# EAGLE library part 693120015011 (library WR-CRD)
WR-CRD Compact Flash Card Connectors Characteristics Compatible with Type 1 and Type 2 CompactFlash Cards Available in Push-Pull/Header entry type Available in normal and reverse orientations Applications Embedded systems Industrial data logging Photo and video recording <https://www.we-online.com/components/media/o33060v209 Family_WR-CRD_Compact Flash Card Kartensockel_693120015011.jpg> Details see: www.we-online.com/en/components/products/WR-CRD_CARD_CONNECTORS_COMPACT_FLASH2 <www.we-online.com/catalog/WR-CRD_CARD_CONNECTORS_COMPACT_FLASH2/?utm_source=eagle_model&utm_medium=description_link&utm_campaign=eisos_eagle> Created by Ella Wu 2019-11-25 2019(C) Wurth Elektronik
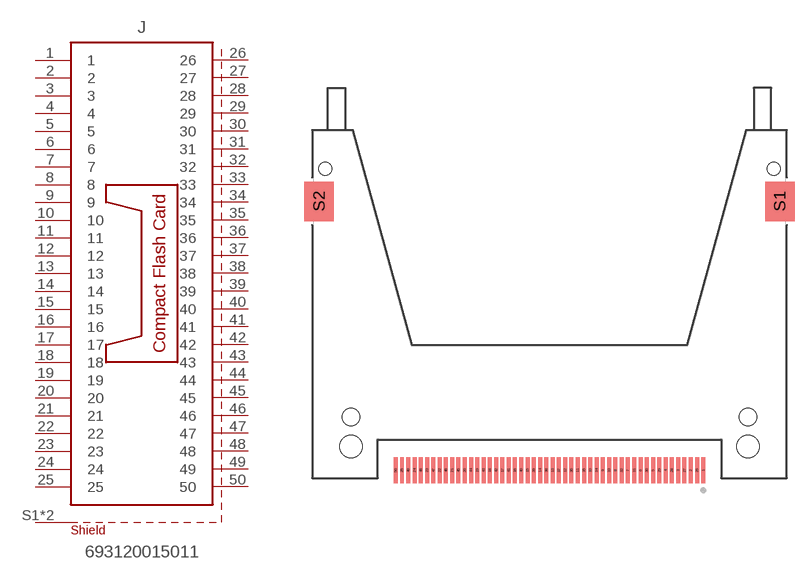
[diagram p16: symbol with the pads of 693120015011; footprint 693120015011]

Designator prefix J

## 693120015011 (DATASHEET-URL: https://www.we-online.com/redexpert/spec/693120015011?ae; DURABILITY: 5000 Mating cycles; GERDER: Socket; MOUNT: SMT; PART-NUMBER: 693120015011; PINS: 50pcs; SIZE: Header; TYPE: Header; VALUE: 693120015011)  [693120015011]
1  1  pas
2  2  pas
3  3  pas
4  4  pas
5  5  pas
6  6  pas
7  7  pas
8  8  pas
9  9  pas
10  10  pas
11  11  pas
12  12  pas
13  13  pas
14  14  pas
15  15  pas
16  16  pas
17  17  pas
18  18  pas
19  19  pas
20  20  pas
21  21  pas
22  22  pas
23  23  pas
24  24  pas
25  25  pas
26  26  pas
27  27  pas
28  28  pas
29  29  pas
30  30  pas
31  31  pas
32  32  pas
33  33  pas
34  34  pas
35  35  pas
36  36  pas
37  37  pas
38  38  pas
39  39  pas
40  40  pas
41  41  pas
42  42  pas
43  43  pas
44  44  pas
45  45  pas
46  46  pas
47  47  pas
48  48  pas
49  49  pas
50  50  pas
S1  SHIELD  pas
S2  SHIELD  pas

## Footprint 693120015011 (pad centres in mm)
WR-CRD Compact Flash Card Connector Header 50 pins
smd 0.4 x 2.6: 1 15.557,-16.2; 2 14.287,-16.2; 3 13.018,-16.2; 4 11.748,-16.2; 5 10.477,-16.2; 6 9.207,-16.2; 7 7.938,-16.2; 8 6.668,-16.2; 9 5.397,-16.2; 10 4.128,-16.2; 11 2.857,-16.2; 12 1.587,-16.2; 13 0.318,-16.2; 14 -0.953,-16.2; 15 -2.223,-16.2; 16 -3.493,-16.2; 17 -4.763,-16.2; 18 -6.032,-16.2; 19 -7.303,-16.2; 20 -8.572,-16.2; 21 -9.842,-16.2; 22 -11.113,-16.2; 23 -12.383,-16.2; 24 -13.652,-16.2; 25 -14.922,-16.2; 26 14.922,-16.2; 27 13.652,-16.2; 28 12.383,-16.2; 29 11.113,-16.2; 30 9.842,-16.2; 31 8.572,-16.2; 32 7.303,-16.2; 33 6.032,-16.2; 34 4.763,-16.2; 35 3.493,-16.2; 36 2.223,-16.2; 37 0.953,-16.2; 38 -0.318,-16.2; 39 -1.587,-16.2; 40 -2.857,-16.2; 41 -4.128,-16.2; 42 -5.397,-16.2; 43 -6.668,-16.2; 44 -7.938,-16.2; 45 -9.207,-16.2; 46 -10.477,-16.2; 47 -11.748,-16.2; 48 -13.018,-16.2; 49 -14.287,-16.2; 50 -15.557,-16.2
smd 3 x 4: S1 23.3,11; S2 -23.3,11
hole 2.3 at -20.08,-13.8
hole 1.8 at -20.08,-10.8
hole 2.3 at 20.08,-13.8
hole 1.8 at 20.08,-10.8
hole 1.3 at -22.7,14.3
hole 1.3 at 22.7,14.3